# Altium schematic symbol library SPACER_MALE_FEMALE.Schlib: 1 symbol
Pins are listed as number, name and electrical type; pins without a type are passive.

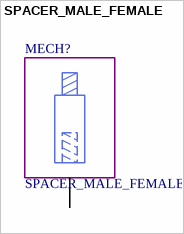
[diagram p0: symbol SPACER_MALE_FEMALE]

## SPACER_MALE_FEMALE
designator MECH?
pins: 1 PAD